# Altium schematic symbol library DB107S.Schlib: 1 symbol
Pins are listed as number, name and electrical type; pins without a type are passive.

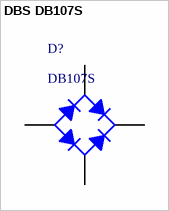
[diagram p0: symbol DBS DB107S]

## DBS DB107S
designator D?, comment DB107S
整流桥
footprint DBS
pins: 1 C, 2 K, 3 C, 4 A